# Altium footprint library INDM1080X800X800L250X250N.PcbLib: 1 footprints
Each footprint in its own frame and in the unit in brackets; x right, y up, seen from the top. Pads: shape width x height; smd on the part's side, far side on the other; paste and mask are expansions set on the pad; w line width, h text height; cw(c..) or ccw(c..) is an arc to the next point about the centre after c.
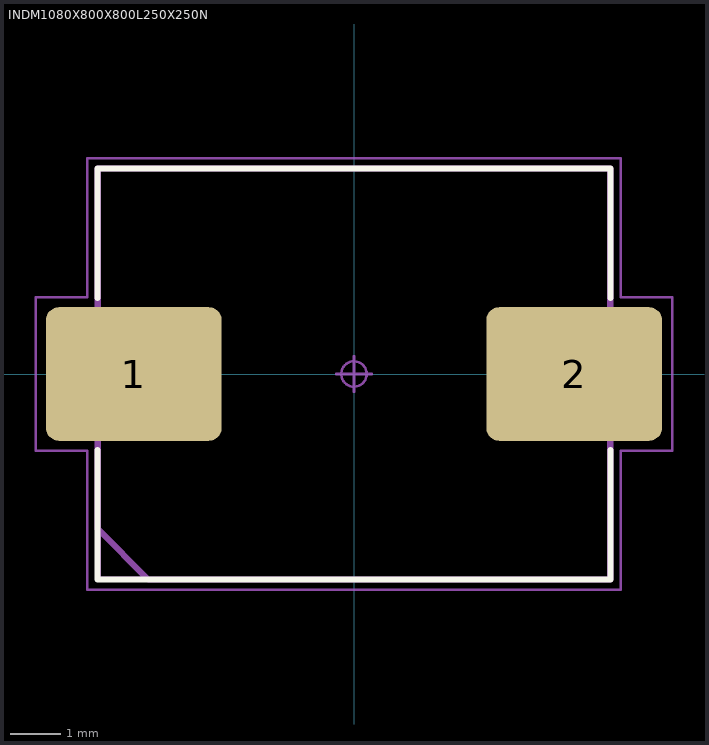
[diagram p0: the footprint, top view; thin cyan lines are the x and y axes]

## INDM1080X800X800L250X250N [mm] "Inductor, Molded Body; 10.00 mm L X 8.00 mm W X 8.00 mm H body"
height 8
pads (2):
  rrect19% 3.46x2.63 smd: 1(-4.335,0) 2(4.335,0)
Top Overlay:
  lines w0.12: -5.05,-1.495 -5.05,-4.05 5.05,-4.05 5.05,-1.495 ; -5.05,1.495 -5.05,4.05 5.05,4.05 5.05,1.495
Mechanical 3:
  lines w0.12: -5.05,-3.05 -4.05,-4.05 5.05,-4.05 5.05,4.05 -5.05,4.05 -5.05,-3.05
Mechanical 5:
  lines w0.025: -5.4,-1.25 -2.9,-1.25 -2.9,1.25 -5.4,1.25 -5.4,-1.25 ; -5,-4 -5,4 5,4 5,-4 -5,-4 ; 2.9,-1.25 2.9,1.25 5.4,1.25 5.4,-1.25 2.9,-1.25
Mechanical 7:
  circle w0.05: c0,0 r0.25
  lines w0.05: -0.35,0 0.35,0 ; 0,-0.35 0,0.35 ; -6.265,-1.515 -6.265,1.515 -5.25,1.515 -5.25,4.25 5.25,4.25 5.25,1.515 6.265,1.515 6.265,-1.515 5.25,-1.515 5.25,-4.25 -5.25,-4.25 -5.25,-1.515 -6.265,-1.515
Mechanical 9:
  text "'.Designator'" at -5.655,-0.554 h1
3D body: height 1, standoff 0, extent -6.275,-4.25 6.275,4.25
3D body "INDM1080X800X800L250X250.STEP": height 8, standoff 0, extent -5.4,-4 5.4,4
3D body: height 1.04, standoff 0, extent -6.265,-4.25 6.265,4.25